# Altium schematic symbol library Isolator_Analog.SchLib: 13 symbols
Pins are listed as number, name and electrical type; pins without a type are passive.

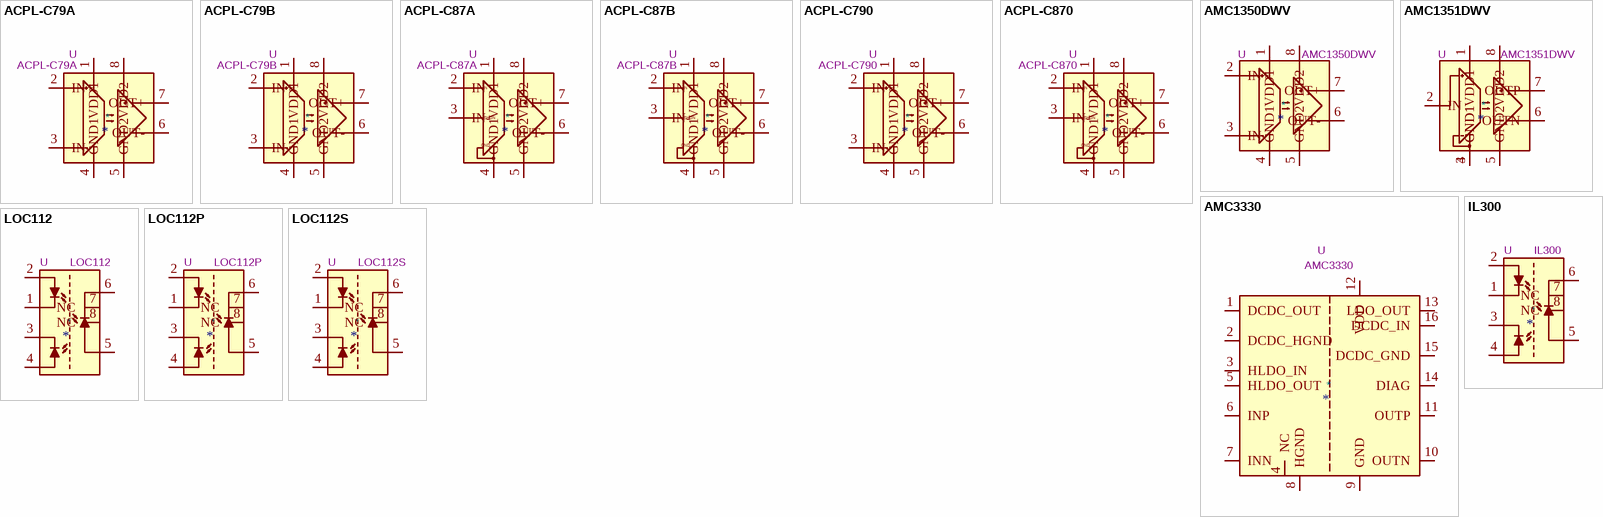
[diagram p0: symbols ACPL-C79A to LOC112S]

## ACPL-C79A
designator *  value ACPL-C79A  Reference: U
Precision Isolation Amplifer, ±1% Gain Tolerance, Bandwidth 200kHz, SSO-8; ki_fp_filters: SSO*6.8x5.9mm*P1.27mm*Clearance8mm*; Footprint: Package_SO:SSO-8_6.8x5.9mm_P1.27mm_Clearance8mm; Datasheet: http://docs.avagotech.com/docs/AV02-2460EN; Description_: Precision Isolation Amplifer, ±1% Gain Tolerance, Bandwidth 200kHz, SSO-8; ki_keywords: Isolation Amplifer
pins: 1 VDD1, 2 IN+, 3 IN-, 4 GND1, 5 GND2, 6 OUT-, 7 OUT+, 8 VDD2

## ACPL-C79B
designator *  value ACPL-C79B  Reference: U
Precision Isolation Amplifer, ±0.5% Gain Tolerance, Bandwidth 200kHz, SSO-8; ki_fp_filters: SSO*6.8x5.9mm*P1.27mm*Clearance8mm*; Footprint: Package_SO:SSO-8_6.8x5.9mm_P1.27mm_Clearance8mm; Datasheet: http://docs.avagotech.com/docs/AV02-2460EN; Description_: Precision Isolation Amplifer, ±0.5% Gain Tolerance, Bandwidth 200kHz, SSO-8; ki_keywords: Isolation Amplifer
pins: 1 VDD1, 2 IN+, 3 IN-, 4 GND1, 5 GND2, 6 OUT-, 7 OUT+, 8 VDD2

## ACPL-C87A
designator *  value ACPL-C87A  Reference: U
Precision Optycally Isolated Voltage Sensor, ±1% Gain Tolerance, Bandwidth 100kHz, SSO-8; ki_fp_filters: SSO*6.8x5.9mm*P1.27mm*Clearance8mm*; Footprint: Package_SO:SSO-8_6.8x5.9mm_P1.27mm_Clearance8mm; Datasheet: www.avagotech.com/docs/AV02-3563EN; Description_: Precision Optycally Isolated Voltage Sensor, ±1% Gain Tolerance, Bandwidth 100kHz, SSO-8; ki_keywords: Optycally Isolated Voltage Sensor
pins: 1 VDD1, 2 IN, 3 IN-, 4 GND1, 5 GND2, 6 OUT-, 7 OUT+, 8 VDD2
text: SHDN; GND

## ACPL-C87B
designator *  value ACPL-C87B  Reference: U
Precision Optycally Isolated Voltage Sensor, ±0.5% Gain Tolerance, Bandwidth 100kHz, SSO-8; ki_fp_filters: SSO*6.8x5.9mm*P1.27mm*Clearance8mm*; Footprint: Package_SO:SSO-8_6.8x5.9mm_P1.27mm_Clearance8mm; Datasheet: www.avagotech.com/docs/AV02-3563EN; Description_: Precision Optycally Isolated Voltage Sensor, ±0.5% Gain Tolerance, Bandwidth 100kHz, SSO-8; ki_keywords: Optycally Isolated Voltage Sensor
pins: 1 VDD1, 2 IN, 3 IN-, 4 GND1, 5 GND2, 6 OUT-, 7 OUT+, 8 VDD2
text: SHDN; GND

## ACPL-C790
designator *  value ACPL-C790  Reference: U
Precision Isolation Amplifer, ±3% Gain Tolerance, Bandwidth 200kHz, SSO-8; ki_fp_filters: SSO*6.8x5.9mm*P1.27mm*Clearance8mm*; Footprint: Package_SO:SSO-8_6.8x5.9mm_P1.27mm_Clearance8mm; Datasheet: http://docs.avagotech.com/docs/AV02-2460EN; Description_: Precision Isolation Amplifer, ±3% Gain Tolerance, Bandwidth 200kHz, SSO-8; ki_keywords: Isolation Amplifer
pins: 1 VDD1, 2 IN+, 3 IN-, 4 GND1, 5 GND2, 6 OUT-, 7 OUT+, 8 VDD2

## ACPL-C870
designator *  value ACPL-C870  Reference: U
Precision Optycally Isolated Voltage Sensor, ±3% Gain Tolerance, Bandwidth 100kHz, SSO-8; ki_fp_filters: SSO*6.8x5.9mm*P1.27mm*Clearance8mm*; Footprint: Package_SO:SSO-8_6.8x5.9mm_P1.27mm_Clearance8mm; Datasheet: www.avagotech.com/docs/AV02-3563EN; Description_: Precision Optycally Isolated Voltage Sensor, ±3% Gain Tolerance, Bandwidth 100kHz, SSO-8; ki_keywords: Optycally Isolated Voltage Sensor
pins: 1 VDD1, 2 IN, 3 IN-, 4 GND1, 5 GND2, 6 OUT-, 7 OUT+, 8 VDD2
text: SHDN; GND

## AMC1350DWV
designator *  value AMC1350DWV  Reference: U
Precision Reinforced Isolated Amplifier, ±5V Input, 300 kHz Bandwidth, 0.4V/V, 0.2% Gain Tolerance, Differential Output, SOIC-8; ki_keywords: Isolation-Amplifer; ki_fp_filters: SOIC*7.5x5.85mm*P1.27mm*; Footprint: Package_SO:SOIC-8_7.5x5.85mm_P1.27mm; Datasheet: https://www.ti.com/lit/gpn/AMC1350; Description_: Precision Reinforced Isolated Amplifier, ±5V Input, 300 kHz Bandwidth, 0.4V/V, 0.2% Gain Tolerance, Differential Output, SOIC-8
pins: 1 VDD1, 2 IN+, 3 IN-, 4 GND1, 5 GND2, 6 OUT-, 7 OUT+, 8 VDD2

## AMC1351DWV
designator *  value AMC1351DWV  Reference: U
Precision Reinforced Isolated Amplifier, 5V Input, 300 kHz Bandwidth, 0.4V/V, 0.2% Gain Tolerance, Differential Output, SOIC-8; ki_keywords: Isolation-Amplifer; ki_fp_filters: SOIC*7.5x5.85mm*P1.27mm*; Footprint: Package_SO:SOIC-8_7.5x5.85mm_P1.27mm; Datasheet: https://www.ti.com/lit/gpn/AMC1351; Description_: Precision Reinforced Isolated Amplifier, 5V Input, 300 kHz Bandwidth, 0.4V/V, 0.2% Gain Tolerance, Differential Output, SOIC-8
pins: 1 VDD1, 2 IN, 3 GND1, 4 GND1, 5 GND2, 6 OUTN, 7 OUTP, 8 VDD2

## AMC3330
designator *  value AMC3330  Reference: U
Reinforced Isolated Amplifier With Integrated DC/DC Converter, SOIC-16W; ki_keywords: isolated analog amplifier integrated power supply; ki_fp_filters: SOIC*7.5x10.3mm*P1.27mm*; Footprint: Package_SO:SOIC-16W_7.5x10.3mm_P1.27mm; Datasheet: https://www.ti.com/lit/ds/symlink/amc3330.pdf; Description_: Reinforced Isolated Amplifier With Integrated DC/DC Converter, SOIC-16W
pins: 1 DCDC_OUT, 2 DCDC_HGND, 3 HLDO_IN, 4 NC, 5 HLDO_OUT, 6 INP, 7 INN, 8 HGND, 9 GND, 10 OUTN, 11 OUTP, 12 VDD, 13 LDO_OUT, 14 DIAG, 15 DCDC_GND, 16 DCDC_IN

## IL300
designator *  value IL300  Reference: U
Isolated Linear Photocoupler, High Gain, Wideband, DIP8/SMD-DIP8; ki_keywords: Vishay; ki_fp_filters: DIP*W7.62mm* DIP*W10.16mm* SMDIP*W7.62mm* SMDIP*W9.53mm* SMDIP*W11.48mm*; Datasheet: http://www.vishay.com/docs/83622/il300.pdf; Description_: Isolated Linear Photocoupler, High Gain, Wideband, DIP8/SMD-DIP8
pins: 1, 2, 3, 4, 5, 6, 7 NC, 8 NC

## LOC112
designator *  value LOC112  Reference: U
Isolated Linear Photocoupler, Wideband, DIP8; ki_keywords: ixys littlefuse; ki_fp_filters: DIP*W7.62mm*; Footprint: Package_DIP:DIP-8_W7.62mm; Datasheet: https://www.littelfuse.com/media?resourcetype=datasheets&itemid=996c6e8f-cc1b-44f6-811e-251c6e004c56&filename=littelfuse-integrated-circuits-loc112-datasheet; Description_: Isolated Linear Photocoupler, Wideband, DIP8
pins: 1, 2, 3, 4, 5, 6, 7 NC, 8 NC

## LOC112P
designator *  value LOC112P  Reference: U
Isolated Linear Photocoupler, Wideband, Flatpak-8; ki_keywords: ixys littlefuse; ki_fp_filters: *Flatpak*6.3x9.7mm*P2.54mm*; Footprint: Package_DIP:IXYS_Flatpak-8_6.3x9.7mm_P2.54mm; Datasheet: https://www.littelfuse.com/media?resourcetype=datasheets&itemid=996c6e8f-cc1b-44f6-811e-251c6e004c56&filename=littelfuse-integrated-circuits-loc112-datasheet; Description_: Isolated Linear Photocoupler, Wideband, Flatpak-8
pins: 1, 2, 3, 4, 5, 6, 7 NC, 8 NC

## LOC112S
designator *  value LOC112S  Reference: U
Isolated Linear Photocoupler, Wideband, SMD-8; ki_keywords: ixys littlefuse; ki_fp_filters: *SMD*6.3x9.7mm*P2.54mm*; Footprint: Package_DIP:IXYS_SMD-8_6.3x9.7mm_P2.54mm; Datasheet: https://www.littelfuse.com/media?resourcetype=datasheets&itemid=996c6e8f-cc1b-44f6-811e-251c6e004c56&filename=littelfuse-integrated-circuits-loc112-datasheet; Description_: Isolated Linear Photocoupler, Wideband, SMD-8
pins: 1, 2, 3, 4, 5, 6, 7 NC, 8 NC